# Altium schematic symbol library kmilo17pet-TI_RS232.SchLib: 1272 symbols (part 13 of 37)
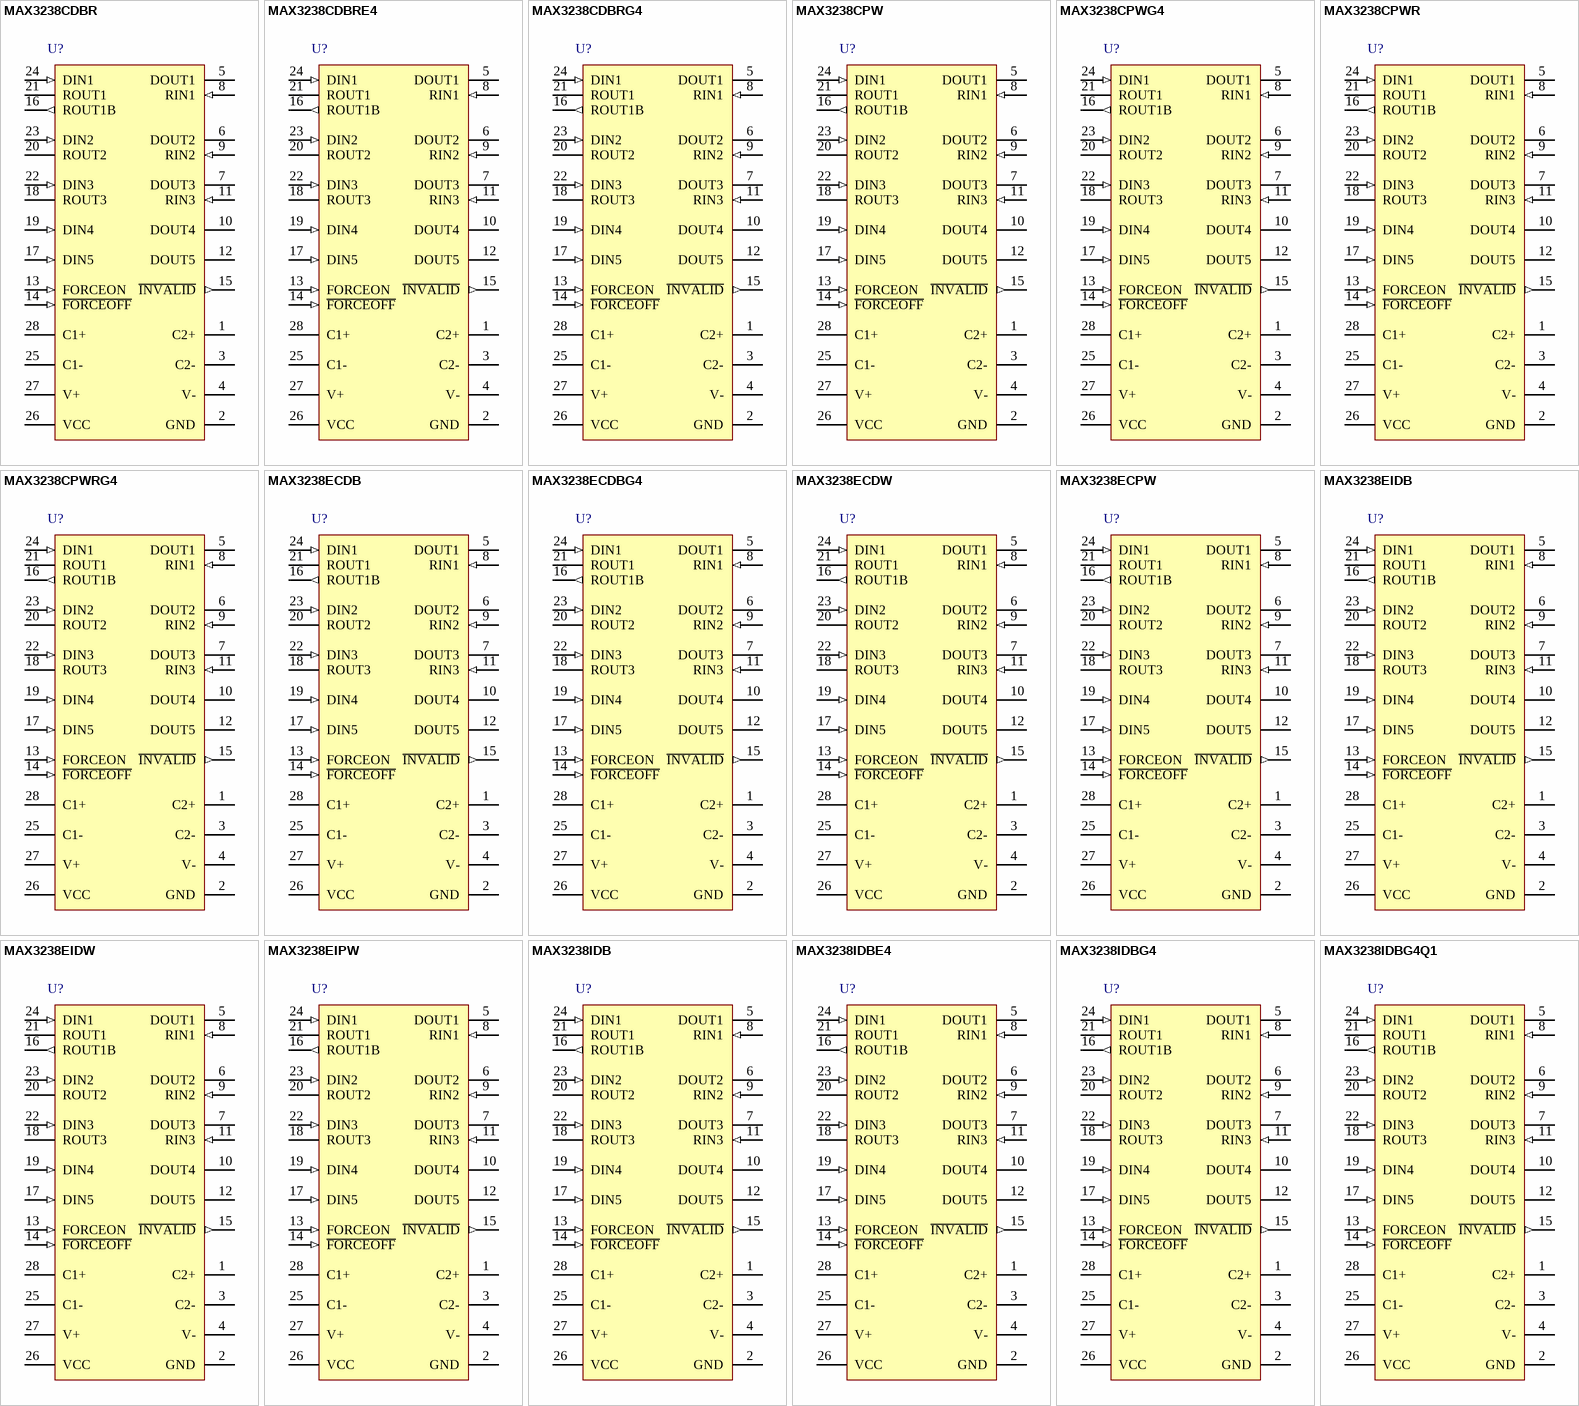
[diagram p66: symbols MAX3238CDBR to MAX3238IDBG4Q1]

## MAX3238CDBRG4
designator U?
3-V to 5.5-V Multichannel RS-232 Line Driver / Receiver with ±15-kV ESD (HBM) Protection, 0 to 70 degC, 28-Pin SSOP (DB), Green (RoHS & no Sb/Br); Drivers Per Package: 5; Receivers Per Package: 3; Supply Voltage(s)(V): 3.3 or 5.0; ESD HBM(kV): +/-15; ICC(Max)(mA): 2; Single Supply: TRUE; DatasheetVersion: SLLS349J; PackageVersion: revE, Dec-2001; PackageReference: DB28; PackageDescription: 28-Pin Plastic Small Outline Package, 10.2 x 5.3 mm Body, 0.65 mm Pitch; SubFamily: RS-232; RS-232: TRUE; ComponentLink1Description: Manufacturer URL; ComponentLink1URL: www.ti.com; ComponentLink2Description: Datasheet; ComponentLink2URL: http://www.ti.com/general/docs/lit/getliterature.tsp?genericPartNumber=MAX3238&fileType=pdf; ComponentLink3Description: Package Specification; ComponentLink3URL: http://www.ti.com/litv/pdf/msso002e
footprint TI-DB28_N (SOP, 28-Leads, Body 10.2x5.3mm, Pitch 0.65mm, IPC Medium Density)
footprint TI-DB28_L (SOP, 28-Leads, Body 10.2x5.3mm, Pitch 0.65mm, IPC High Density)
footprint TI-DB28_M (SOP, 28-Leads, Body 10.2x5.3mm, Pitch 0.65mm, IPC Low Density)
pins: 1 C2+, 2 GND (power), 3 C2-, 4 V- (power), 5 DOUT1 (hiz), 6 DOUT2 (hiz), 7 DOUT3 (hiz), 8 RIN1 (in), 9 RIN2 (in), 10 DOUT4 (hiz), 11 RIN3 (in), 12 DOUT5 (hiz), 13 FORCEON (in), 14 ~{FORCEOFF} (in), 15 ~{INVALID} (out), 16 ROUT1B (out), 17 DIN5 (in), 18 ROUT3 (hiz), 19 DIN4 (in), 20 ROUT2 (hiz), 21 ROUT1 (hiz), 22 DIN3 (in), 23 DIN2 (in), 24 DIN1 (in), 25 C1-, 26 VCC (power), 27 V+ (power), 28 C1+

## MAX3238CPW
designator U?
3-V to 5.5-V Multichannel RS-232 Line Driver / Receiver with ±15-kV ESD (HBM) Protection, 0 to 70 degC, 28-Pin TSSOP (PW), Green (RoHS & no Sb/Br); Drivers Per Package: 5; Receivers Per Package: 3; Supply Voltage(s)(V): 3.3 or 5.0; ESD HBM(kV): +/-15; ICC(Max)(mA): 2; Single Supply: TRUE; DatasheetVersion: SLLS349J; PackageVersion: revG, Feb-2011; PackageReference: PW28; PackageDescription: 28-Pin Plastic Thin Small Outline Package 9.7 x 4.4 mm Body ,0.65 mm Pitch; SubFamily: RS-232; RS-232: TRUE; ComponentLink1Description: Manufacturer URL; ComponentLink1URL: www.ti.com; ComponentLink2Description: Datasheet; ComponentLink2URL: http://www.ti.com/general/docs/lit/getliterature.tsp?genericPartNumber=MAX3238&fileType=pdf; ComponentLink3Description: Package Specification; ComponentLink3URL: http://www.ti.com/litv/pdf/mpds364
footprint TI-PW28_N (TSOP, 28-Leads, Body 9.7x4.4mm, Pitch 0.65mm, IPC Medium Density)
footprint TI-PW28_L (TSOP, 28-Leads, Body 9.7x4.4mm, Pitch 0.65mm, IPC High Density)
footprint TI-PW28_M (TSOP, 28-Leads, Body 9.7x4.4mm, Pitch 0.65mm, IPC Low Density)
pins: 1 C2+, 2 GND (power), 3 C2-, 4 V- (power), 5 DOUT1 (hiz), 6 DOUT2 (hiz), 7 DOUT3 (hiz), 8 RIN1 (in), 9 RIN2 (in), 10 DOUT4 (hiz), 11 RIN3 (in), 12 DOUT5 (hiz), 13 FORCEON (in), 14 ~{FORCEOFF} (in), 15 ~{INVALID} (out), 16 ROUT1B (out), 17 DIN5 (in), 18 ROUT3 (hiz), 19 DIN4 (in), 20 ROUT2 (hiz), 21 ROUT1 (hiz), 22 DIN3 (in), 23 DIN2 (in), 24 DIN1 (in), 25 C1-, 26 VCC (power), 27 V+ (power), 28 C1+

## MAX3238CPWG4
designator U?
3-V to 5.5-V Multichannel RS-232 Line Driver / Receiver with ±15-kV ESD (HBM) Protection, 0 to 70 degC, 28-Pin TSSOP (PW), Green (RoHS & no Sb/Br); Drivers Per Package: 5; Receivers Per Package: 3; Supply Voltage(s)(V): 3.3 or 5.0; ESD HBM(kV): +/-15; ICC(Max)(mA): 2; Single Supply: TRUE; DatasheetVersion: SLLS349J; PackageVersion: revG, Feb-2011; PackageReference: PW28; PackageDescription: 28-Pin Plastic Thin Small Outline Package 9.7 x 4.4 mm Body ,0.65 mm Pitch; SubFamily: RS-232; RS-232: TRUE; ComponentLink1Description: Manufacturer URL; ComponentLink1URL: www.ti.com; ComponentLink2Description: Datasheet; ComponentLink2URL: http://www.ti.com/general/docs/lit/getliterature.tsp?genericPartNumber=MAX3238&fileType=pdf; ComponentLink3Description: Package Specification; ComponentLink3URL: http://www.ti.com/litv/pdf/mpds364
footprint TI-PW28_N (TSOP, 28-Leads, Body 9.7x4.4mm, Pitch 0.65mm, IPC Medium Density)
footprint TI-PW28_L (TSOP, 28-Leads, Body 9.7x4.4mm, Pitch 0.65mm, IPC High Density)
footprint TI-PW28_M (TSOP, 28-Leads, Body 9.7x4.4mm, Pitch 0.65mm, IPC Low Density)
pins: 1 C2+, 2 GND (power), 3 C2-, 4 V- (power), 5 DOUT1 (hiz), 6 DOUT2 (hiz), 7 DOUT3 (hiz), 8 RIN1 (in), 9 RIN2 (in), 10 DOUT4 (hiz), 11 RIN3 (in), 12 DOUT5 (hiz), 13 FORCEON (in), 14 ~{FORCEOFF} (in), 15 ~{INVALID} (out), 16 ROUT1B (out), 17 DIN5 (in), 18 ROUT3 (hiz), 19 DIN4 (in), 20 ROUT2 (hiz), 21 ROUT1 (hiz), 22 DIN3 (in), 23 DIN2 (in), 24 DIN1 (in), 25 C1-, 26 VCC (power), 27 V+ (power), 28 C1+

## MAX3238CPWR
designator U?
3-V to 5.5-V Multichannel RS-232 Line Driver / Receiver with ±15-kV ESD (HBM) Protection, 0 to 70 degC, 28-Pin TSSOP (PW), Green (RoHS & no Sb/Br); Drivers Per Package: 5; Receivers Per Package: 3; Supply Voltage(s)(V): 3.3 or 5.0; ESD HBM(kV): +/-15; ICC(Max)(mA): 2; Single Supply: TRUE; DatasheetVersion: SLLS349J; PackageVersion: revG, Feb-2011; PackageReference: PW28; PackageDescription: 28-Pin Plastic Thin Small Outline Package 9.7 x 4.4 mm Body ,0.65 mm Pitch; SubFamily: RS-232; RS-232: TRUE; ComponentLink1Description: Manufacturer URL; ComponentLink1URL: www.ti.com; ComponentLink2Description: Datasheet; ComponentLink2URL: http://www.ti.com/general/docs/lit/getliterature.tsp?genericPartNumber=MAX3238&fileType=pdf; ComponentLink3Description: Package Specification; ComponentLink3URL: http://www.ti.com/litv/pdf/mpds364
footprint TI-PW28_N (TSOP, 28-Leads, Body 9.7x4.4mm, Pitch 0.65mm, IPC Medium Density)
footprint TI-PW28_L (TSOP, 28-Leads, Body 9.7x4.4mm, Pitch 0.65mm, IPC High Density)
footprint TI-PW28_M (TSOP, 28-Leads, Body 9.7x4.4mm, Pitch 0.65mm, IPC Low Density)
pins: 1 C2+, 2 GND (power), 3 C2-, 4 V- (power), 5 DOUT1 (hiz), 6 DOUT2 (hiz), 7 DOUT3 (hiz), 8 RIN1 (in), 9 RIN2 (in), 10 DOUT4 (hiz), 11 RIN3 (in), 12 DOUT5 (hiz), 13 FORCEON (in), 14 ~{FORCEOFF} (in), 15 ~{INVALID} (out), 16 ROUT1B (out), 17 DIN5 (in), 18 ROUT3 (hiz), 19 DIN4 (in), 20 ROUT2 (hiz), 21 ROUT1 (hiz), 22 DIN3 (in), 23 DIN2 (in), 24 DIN1 (in), 25 C1-, 26 VCC (power), 27 V+ (power), 28 C1+

## MAX3238CPWRG4
designator U?
3-V to 5.5-V Multichannel RS-232 Line Driver / Receiver with ±15-kV ESD (HBM) Protection, 0 to 70 degC, 28-Pin TSSOP (PW), Green (RoHS & no Sb/Br); Drivers Per Package: 5; Receivers Per Package: 3; Supply Voltage(s)(V): 3.3 or 5.0; ESD HBM(kV): +/-15; ICC(Max)(mA): 2; Single Supply: TRUE; DatasheetVersion: SLLS349J; PackageVersion: revG, Feb-2011; PackageReference: PW28; PackageDescription: 28-Pin Plastic Thin Small Outline Package 9.7 x 4.4 mm Body ,0.65 mm Pitch; SubFamily: RS-232; RS-232: TRUE; ComponentLink1Description: Manufacturer URL; ComponentLink1URL: www.ti.com; ComponentLink2Description: Datasheet; ComponentLink2URL: http://www.ti.com/general/docs/lit/getliterature.tsp?genericPartNumber=MAX3238&fileType=pdf; ComponentLink3Description: Package Specification; ComponentLink3URL: http://www.ti.com/litv/pdf/mpds364
footprint TI-PW28_N (TSOP, 28-Leads, Body 9.7x4.4mm, Pitch 0.65mm, IPC Medium Density)
footprint TI-PW28_L (TSOP, 28-Leads, Body 9.7x4.4mm, Pitch 0.65mm, IPC High Density)
footprint TI-PW28_M (TSOP, 28-Leads, Body 9.7x4.4mm, Pitch 0.65mm, IPC Low Density)
pins: 1 C2+, 2 GND (power), 3 C2-, 4 V- (power), 5 DOUT1 (hiz), 6 DOUT2 (hiz), 7 DOUT3 (hiz), 8 RIN1 (in), 9 RIN2 (in), 10 DOUT4 (hiz), 11 RIN3 (in), 12 DOUT5 (hiz), 13 FORCEON (in), 14 ~{FORCEOFF} (in), 15 ~{INVALID} (out), 16 ROUT1B (out), 17 DIN5 (in), 18 ROUT3 (hiz), 19 DIN4 (in), 20 ROUT2 (hiz), 21 ROUT1 (hiz), 22 DIN3 (in), 23 DIN2 (in), 24 DIN1 (in), 25 C1-, 26 VCC (power), 27 V+ (power), 28 C1+

## MAX3238ECDB
designator U?
3-V to 5.5-V Multichannel RS-232 Line Driver / Receiver with ±15-kV ESD (HBM) Protection, 0 to 70 degC , 28-Pin SSOP (DB), Green (RoHS & no Sb/Br); Drivers Per Package: 5; Receivers Per Package: 3; Supply Voltage(s)(V): 3.3 or 5.0; ESD HBM(kV): +/-15; ICC(Max)(mA): 2; Single Supply: TRUE; DatasheetVersion: SLLS710A; PackageVersion: revE, Dec-2001; PackageReference: DB28; PackageDescription: 28-Pin Plastic Small Outline Package, 10.2 x 5.3 mm Body, 0.65 mm Pitch; SubFamily: RS-232; RS-232: TRUE; IEC-61000-4-2 SUPPORT: TRUE; ComponentLink1Description: Manufacturer URL; ComponentLink1URL: www.ti.com; ComponentLink2Description: Datasheet; ComponentLink2URL: http://www.ti.com/general/docs/lit/getliterature.tsp?genericPartNumber=MAX3238E&fileType=pdf; ComponentLink3Description: Package Specification; ComponentLink3URL: http://www.ti.com/litv/pdf/msso002e
footprint TI-DB28_N (SOP, 28-Leads, Body 10.2x5.3mm, Pitch 0.65mm, IPC Medium Density)
footprint TI-DB28_L (SOP, 28-Leads, Body 10.2x5.3mm, Pitch 0.65mm, IPC High Density)
footprint TI-DB28_M (SOP, 28-Leads, Body 10.2x5.3mm, Pitch 0.65mm, IPC Low Density)
pins: 1 C2+, 2 GND (power), 3 C2-, 4 V- (power), 5 DOUT1 (hiz), 6 DOUT2 (hiz), 7 DOUT3 (hiz), 8 RIN1 (in), 9 RIN2 (in), 10 DOUT4 (hiz), 11 RIN3 (in), 12 DOUT5 (hiz), 13 FORCEON (in), 14 ~{FORCEOFF} (in), 15 ~{INVALID} (out), 16 ROUT1B (out), 17 DIN5 (in), 18 ROUT3 (hiz), 19 DIN4 (in), 20 ROUT2 (hiz), 21 ROUT1 (hiz), 22 DIN3 (in), 23 DIN2 (in), 24 DIN1 (in), 25 C1-, 26 VCC (power), 27 V+ (power), 28 C1+

## MAX3238ECDBG4
designator U?
3-V to 5.5-V Multichannel RS-232 Line Driver / Receiver with ±15-kV ESD (HBM) Protection, 0 to 70 degC, 28-Pin SSOP (DB), Green (RoHS & no Sb/Br); Drivers Per Package: 5; Receivers Per Package: 3; Supply Voltage(s)(V): 3.3 or 5.0; ESD HBM(kV): +/-15; ICC(Max)(mA): 2; Single Supply: TRUE; DatasheetVersion: SLLS710A; PackageVersion: revE, Dec-2001; PackageReference: DB28; PackageDescription: 28-Pin Plastic Small Outline Package, 10.2 x 5.3 mm Body, 0.65 mm Pitch; SubFamily: RS-232; RS-232: TRUE; IEC-61000-4-2 SUPPORT: TRUE; ComponentLink1Description: Manufacturer URL; ComponentLink1URL: www.ti.com; ComponentLink2Description: Datasheet; ComponentLink2URL: http://www.ti.com/general/docs/lit/getliterature.tsp?genericPartNumber=MAX3238E&fileType=pdf; ComponentLink3Description: Package Specification; ComponentLink3URL: http://www.ti.com/litv/pdf/msso002e
footprint TI-DB28_N (SOP, 28-Leads, Body 10.2x5.3mm, Pitch 0.65mm, IPC Medium Density)
footprint TI-DB28_L (SOP, 28-Leads, Body 10.2x5.3mm, Pitch 0.65mm, IPC High Density)
footprint TI-DB28_M (SOP, 28-Leads, Body 10.2x5.3mm, Pitch 0.65mm, IPC Low Density)
pins: 1 C2+, 2 GND (power), 3 C2-, 4 V- (power), 5 DOUT1 (hiz), 6 DOUT2 (hiz), 7 DOUT3 (hiz), 8 RIN1 (in), 9 RIN2 (in), 10 DOUT4 (hiz), 11 RIN3 (in), 12 DOUT5 (hiz), 13 FORCEON (in), 14 ~{FORCEOFF} (in), 15 ~{INVALID} (out), 16 ROUT1B (out), 17 DIN5 (in), 18 ROUT3 (hiz), 19 DIN4 (in), 20 ROUT2 (hiz), 21 ROUT1 (hiz), 22 DIN3 (in), 23 DIN2 (in), 24 DIN1 (in), 25 C1-, 26 VCC (power), 27 V+ (power), 28 C1+

## MAX3238ECDW
designator U?
3-V to 5.5-V Multichannel RS-232 Line Driver / Receiver with ±15-kV ESD (HBM) Protection, 0 to 70 degC, 28-Pin SOIC (DW), Green (RoHS & no Sb/Br); Drivers Per Package: 5; Receivers Per Package: 3; Supply Voltage(s)(V): 3.3 or 5.0; ESD HBM(kV): +/-15; ICC(Max)(mA): 2; Single Supply: TRUE; DatasheetVersion: SLLS710A; PackageVersion: revG, Jan-2011; PackageReference: DW28; PackageDescription: 28-Pin Plastic Small Outline Integrated Circuit, 17.9 x 7.5 mm, Pitch 1.27 mm Pitch; SubFamily: RS-232; RS-232: TRUE; IEC-61000-4-2 SUPPORT: TRUE; ComponentLink1Description: Manufacturer URL; ComponentLink1URL: www.ti.com; ComponentLink2Description: Datasheet; ComponentLink2URL: http://www.ti.com/general/docs/lit/getliterature.tsp?genericPartNumber=MAX3238E&fileType=pdf; ComponentLink3Description: Package Specification; ComponentLink3URL: http://www.ti.com/litv/pdf/mpds175a
footprint TI-DW28_N (SOIC, 28-Leads, Body 17.9x7.5mm, Pitch 1.27mm, IPC Medium Density)
footprint TI-DW28_L (SOIC, 28-Leads, Body 17.9x7.5mm, Pitch 1.27mm, IPC High Density)
footprint TI-DW28_M (SOIC, 28-Leads, Body 17.9x7.5mm, Pitch 1.27mm, IPC Low Density)
pins: 1 C2+, 2 GND (power), 3 C2-, 4 V- (power), 5 DOUT1 (hiz), 6 DOUT2 (hiz), 7 DOUT3 (hiz), 8 RIN1 (in), 9 RIN2 (in), 10 DOUT4 (hiz), 11 RIN3 (in), 12 DOUT5 (hiz), 13 FORCEON (in), 14 ~{FORCEOFF} (in), 15 ~{INVALID} (out), 16 ROUT1B (out), 17 DIN5 (in), 18 ROUT3 (hiz), 19 DIN4 (in), 20 ROUT2 (hiz), 21 ROUT1 (hiz), 22 DIN3 (in), 23 DIN2 (in), 24 DIN1 (in), 25 C1-, 26 VCC (power), 27 V+ (power), 28 C1+

## MAX3238ECPW
designator U?
3-V to 5.5-V Multichannel RS-232 Line Driver / Receiver with ±15-kV ESD (HBM) Protection, 0 to 70 degC, 28-Pin TSSOP (PW), Green (RoHS & no Sb/Br); Drivers Per Package: 5; Receivers Per Package: 3; Supply Voltage(s)(V): 3.3 or 5.0; ESD HBM(kV): +/-15; ICC(Max)(mA): 2; Single Supply: TRUE; DatasheetVersion: SLLS710A; PackageVersion: revG, Feb-2011; PackageReference: PW28; PackageDescription: 28-Pin Plastic Thin Small Outline Package 9.7 x 4.4 mm Body ,0.65 mm Pitch; SubFamily: RS-232; RS-232: TRUE; IEC-61000-4-2 SUPPORT: TRUE; ComponentLink1Description: Manufacturer URL; ComponentLink1URL: www.ti.com; ComponentLink2Description: Datasheet; ComponentLink2URL: http://www.ti.com/general/docs/lit/getliterature.tsp?genericPartNumber=MAX3238E&fileType=pdf; ComponentLink3Description: Package Specification; ComponentLink3URL: http://www.ti.com/litv/pdf/mpds364
footprint TI-PW28_N (TSOP, 28-Leads, Body 9.7x4.4mm, Pitch 0.65mm, IPC Medium Density)
footprint TI-PW28_L (TSOP, 28-Leads, Body 9.7x4.4mm, Pitch 0.65mm, IPC High Density)
footprint TI-PW28_M (TSOP, 28-Leads, Body 9.7x4.4mm, Pitch 0.65mm, IPC Low Density)
pins: 1 C2+, 2 GND (power), 3 C2-, 4 V- (power), 5 DOUT1 (hiz), 6 DOUT2 (hiz), 7 DOUT3 (hiz), 8 RIN1 (in), 9 RIN2 (in), 10 DOUT4 (hiz), 11 RIN3 (in), 12 DOUT5 (hiz), 13 FORCEON (in), 14 ~{FORCEOFF} (in), 15 ~{INVALID} (out), 16 ROUT1B (out), 17 DIN5 (in), 18 ROUT3 (hiz), 19 DIN4 (in), 20 ROUT2 (hiz), 21 ROUT1 (hiz), 22 DIN3 (in), 23 DIN2 (in), 24 DIN1 (in), 25 C1-, 26 VCC (power), 27 V+ (power), 28 C1+

## MAX3238EIDB
designator U?
3-V to 5.5-V Multichannel RS-232 Line Driver / Receiver with ±15-kV ESD (HBM) Protection, -40 to 85 degC, 28-Pin SSOP (DB), Green (RoHS & no Sb/Br); Drivers Per Package: 5; Receivers Per Package: 3; Supply Voltage(s)(V): 3.3 or 5.0; ESD HBM(kV): +/-15; ICC(Max)(mA): 2; Single Supply: TRUE; DatasheetVersion: SLLS710A; PackageVersion: revE, Dec-2001; PackageReference: DB28; PackageDescription: 28-Pin Plastic Small Outline Package, 10.2 x 5.3 mm Body, 0.65 mm Pitch; SubFamily: RS-232; RS-232: TRUE; IEC-61000-4-2 SUPPORT: TRUE; ComponentLink1Description: Manufacturer URL; ComponentLink1URL: www.ti.com; ComponentLink2Description: Datasheet; ComponentLink2URL: http://www.ti.com/general/docs/lit/getliterature.tsp?genericPartNumber=MAX3238E&fileType=pdf; ComponentLink3Description: Package Specification; ComponentLink3URL: http://www.ti.com/litv/pdf/msso002e
footprint TI-DB28_N (SOP, 28-Leads, Body 10.2x5.3mm, Pitch 0.65mm, IPC Medium Density)
footprint TI-DB28_L (SOP, 28-Leads, Body 10.2x5.3mm, Pitch 0.65mm, IPC High Density)
footprint TI-DB28_M (SOP, 28-Leads, Body 10.2x5.3mm, Pitch 0.65mm, IPC Low Density)
pins: 1 C2+, 2 GND (power), 3 C2-, 4 V- (power), 5 DOUT1 (hiz), 6 DOUT2 (hiz), 7 DOUT3 (hiz), 8 RIN1 (in), 9 RIN2 (in), 10 DOUT4 (hiz), 11 RIN3 (in), 12 DOUT5 (hiz), 13 FORCEON (in), 14 ~{FORCEOFF} (in), 15 ~{INVALID} (out), 16 ROUT1B (out), 17 DIN5 (in), 18 ROUT3 (hiz), 19 DIN4 (in), 20 ROUT2 (hiz), 21 ROUT1 (hiz), 22 DIN3 (in), 23 DIN2 (in), 24 DIN1 (in), 25 C1-, 26 VCC (power), 27 V+ (power), 28 C1+

## MAX3238EIDW
designator U?
3-V to 5.5-V Multichannel RS-232 Line Driver / Receiver with ±15-kV ESD (HBM) Protection, -40 to 85 degC, 28-Pin SOIC (DW), Green (RoHS & no Sb/Br); Drivers Per Package: 5; Receivers Per Package: 3; Supply Voltage(s)(V): 3.3 or 5.0; ESD HBM(kV): +/-15; ICC(Max)(mA): 2; Single Supply: TRUE; DatasheetVersion: SLLS710A; PackageVersion: revG, Jan-2011; PackageReference: DW28; PackageDescription: 28-Pin Plastic Small Outline Integrated Circuit, 17.9 x 7.5 mm, Pitch 1.27 mm Pitch; SubFamily: RS-232; RS-232: TRUE; IEC-61000-4-2 SUPPORT: TRUE; ComponentLink1Description: Manufacturer URL; ComponentLink1URL: www.ti.com; ComponentLink2Description: Datasheet; ComponentLink2URL: http://www.ti.com/general/docs/lit/getliterature.tsp?genericPartNumber=MAX3238E&fileType=pdf; ComponentLink3Description: Package Specification; ComponentLink3URL: http://www.ti.com/litv/pdf/mpds175a
footprint TI-DW28_N (SOIC, 28-Leads, Body 17.9x7.5mm, Pitch 1.27mm, IPC Medium Density)
footprint TI-DW28_L (SOIC, 28-Leads, Body 17.9x7.5mm, Pitch 1.27mm, IPC High Density)
footprint TI-DW28_M (SOIC, 28-Leads, Body 17.9x7.5mm, Pitch 1.27mm, IPC Low Density)
pins: 1 C2+, 2 GND (power), 3 C2-, 4 V- (power), 5 DOUT1 (hiz), 6 DOUT2 (hiz), 7 DOUT3 (hiz), 8 RIN1 (in), 9 RIN2 (in), 10 DOUT4 (hiz), 11 RIN3 (in), 12 DOUT5 (hiz), 13 FORCEON (in), 14 ~{FORCEOFF} (in), 15 ~{INVALID} (out), 16 ROUT1B (out), 17 DIN5 (in), 18 ROUT3 (hiz), 19 DIN4 (in), 20 ROUT2 (hiz), 21 ROUT1 (hiz), 22 DIN3 (in), 23 DIN2 (in), 24 DIN1 (in), 25 C1-, 26 VCC (power), 27 V+ (power), 28 C1+

## MAX3238EIPW
designator U?
3-V to 5.5-V Multichannel RS-232 Line Driver / Receiver with ±15-kV ESD (HBM) Protection, -40 to 85 degC, 28-Pin TSSOP (PW), Green (RoHS & no Sb/Br); Drivers Per Package: 5; Receivers Per Package: 3; Supply Voltage(s)(V): 3.3 or 5.0; ESD HBM(kV): +/-15; ICC(Max)(mA): 2; Single Supply: TRUE; DatasheetVersion: SLLS710A; PackageVersion: revG, Feb-2011; PackageReference: PW28; PackageDescription: 28-Pin Plastic Thin Small Outline Package 9.7 x 4.4 mm Body ,0.65 mm Pitch; SubFamily: RS-232; RS-232: TRUE; IEC-61000-4-2 SUPPORT: TRUE; ComponentLink1Description: Manufacturer URL; ComponentLink1URL: www.ti.com; ComponentLink2Description: Datasheet; ComponentLink2URL: http://www.ti.com/general/docs/lit/getliterature.tsp?genericPartNumber=MAX3238E&fileType=pdf; ComponentLink3Description: Package Specification; ComponentLink3URL: http://www.ti.com/litv/pdf/mpds364
footprint TI-PW28_N (TSOP, 28-Leads, Body 9.7x4.4mm, Pitch 0.65mm, IPC Medium Density)
footprint TI-PW28_L (TSOP, 28-Leads, Body 9.7x4.4mm, Pitch 0.65mm, IPC High Density)
footprint TI-PW28_M (TSOP, 28-Leads, Body 9.7x4.4mm, Pitch 0.65mm, IPC Low Density)
pins: 1 C2+, 2 GND (power), 3 C2-, 4 V- (power), 5 DOUT1 (hiz), 6 DOUT2 (hiz), 7 DOUT3 (hiz), 8 RIN1 (in), 9 RIN2 (in), 10 DOUT4 (hiz), 11 RIN3 (in), 12 DOUT5 (hiz), 13 FORCEON (in), 14 ~{FORCEOFF} (in), 15 ~{INVALID} (out), 16 ROUT1B (out), 17 DIN5 (in), 18 ROUT3 (hiz), 19 DIN4 (in), 20 ROUT2 (hiz), 21 ROUT1 (hiz), 22 DIN3 (in), 23 DIN2 (in), 24 DIN1 (in), 25 C1-, 26 VCC (power), 27 V+ (power), 28 C1+

## MAX3238IDB
designator U?
3-V to 5.5-V Multichannel RS-232 Line Driver / Receiver with ±15-kV ESD (HBM) Protection, -40 to 85 degC, 28-Pin SSOP (DB), Green (RoHS & no Sb/Br); Drivers Per Package: 5; Receivers Per Package: 3; Supply Voltage(s)(V): 3.3 or 5.0; ESD HBM(kV): +/-15; ICC(Max)(mA): 2; Single Supply: TRUE; DatasheetVersion: SLLS349J; PackageVersion: revE, Dec-2001; PackageReference: DB28; PackageDescription: 28-Pin Plastic Small Outline Package, 10.2 x 5.3 mm Body, 0.65 mm Pitch; SubFamily: RS-232; RS-232: TRUE; ComponentLink1Description: Manufacturer URL; ComponentLink1URL: www.ti.com; ComponentLink2Description: Datasheet; ComponentLink2URL: http://www.ti.com/general/docs/lit/getliterature.tsp?genericPartNumber=MAX3238&fileType=pdf; ComponentLink3Description: Package Specification; ComponentLink3URL: http://www.ti.com/litv/pdf/msso002e
footprint TI-DB28_N (SOP, 28-Leads, Body 10.2x5.3mm, Pitch 0.65mm, IPC Medium Density)
footprint TI-DB28_L (SOP, 28-Leads, Body 10.2x5.3mm, Pitch 0.65mm, IPC High Density)
footprint TI-DB28_M (SOP, 28-Leads, Body 10.2x5.3mm, Pitch 0.65mm, IPC Low Density)
pins: 1 C2+, 2 GND (power), 3 C2-, 4 V- (power), 5 DOUT1 (hiz), 6 DOUT2 (hiz), 7 DOUT3 (hiz), 8 RIN1 (in), 9 RIN2 (in), 10 DOUT4 (hiz), 11 RIN3 (in), 12 DOUT5 (hiz), 13 FORCEON (in), 14 ~{FORCEOFF} (in), 15 ~{INVALID} (out), 16 ROUT1B (out), 17 DIN5 (in), 18 ROUT3 (hiz), 19 DIN4 (in), 20 ROUT2 (hiz), 21 ROUT1 (hiz), 22 DIN3 (in), 23 DIN2 (in), 24 DIN1 (in), 25 C1-, 26 VCC (power), 27 V+ (power), 28 C1+

## MAX3238IDBE4
designator U?
3-V to 5.5-V Multichannel RS-232 Line Driver / Receiver with ±15-kV ESD (HBM) Protection, -40 to 85 degC, 28-Pin SSOP (DB), Green (RoHS & no Sb/Br); Drivers Per Package: 5; Receivers Per Package: 3; Supply Voltage(s)(V): 3.3 or 5.0; ESD HBM(kV): +/-15; ICC(Max)(mA): 2; Single Supply: TRUE; DatasheetVersion: SLLS349J; PackageVersion: revE, Dec-2001; PackageReference: DB28; PackageDescription: 28-Pin Plastic Small Outline Package, 10.2 x 5.3 mm Body, 0.65 mm Pitch; SubFamily: RS-232; RS-232: TRUE; ComponentLink1Description: Manufacturer URL; ComponentLink1URL: www.ti.com; ComponentLink2Description: Datasheet; ComponentLink2URL: http://www.ti.com/general/docs/lit/getliterature.tsp?genericPartNumber=MAX3238&fileType=pdf; ComponentLink3Description: Package Specification; ComponentLink3URL: http://www.ti.com/litv/pdf/msso002e
footprint TI-DB28_N (SOP, 28-Leads, Body 10.2x5.3mm, Pitch 0.65mm, IPC Medium Density)
footprint TI-DB28_L (SOP, 28-Leads, Body 10.2x5.3mm, Pitch 0.65mm, IPC High Density)
footprint TI-DB28_M (SOP, 28-Leads, Body 10.2x5.3mm, Pitch 0.65mm, IPC Low Density)
pins: 1 C2+, 2 GND (power), 3 C2-, 4 V- (power), 5 DOUT1 (hiz), 6 DOUT2 (hiz), 7 DOUT3 (hiz), 8 RIN1 (in), 9 RIN2 (in), 10 DOUT4 (hiz), 11 RIN3 (in), 12 DOUT5 (hiz), 13 FORCEON (in), 14 ~{FORCEOFF} (in), 15 ~{INVALID} (out), 16 ROUT1B (out), 17 DIN5 (in), 18 ROUT3 (hiz), 19 DIN4 (in), 20 ROUT2 (hiz), 21 ROUT1 (hiz), 22 DIN3 (in), 23 DIN2 (in), 24 DIN1 (in), 25 C1-, 26 VCC (power), 27 V+ (power), 28 C1+

## MAX3238IDBG4
designator U?
3-V to 5.5-V Multichannel RS-232 Line Driver / Receiver with ±15-kV ESD (HBM) Protection, -40 to 85 degC, 28-Pin SSOP (DB), Green (RoHS & no Sb/Br); Drivers Per Package: 5; Receivers Per Package: 3; Supply Voltage(s)(V): 3.3 or 5.0; ESD HBM(kV): +/-15; ICC(Max)(mA): 2; Single Supply: TRUE; DatasheetVersion: SLLS349J; PackageVersion: revE, Dec-2001; PackageReference: DB28; PackageDescription: 28-Pin Plastic Small Outline Package, 10.2 x 5.3 mm Body, 0.65 mm Pitch; SubFamily: RS-232; RS-232: TRUE; ComponentLink1Description: Manufacturer URL; ComponentLink1URL: www.ti.com; ComponentLink2Description: Datasheet; ComponentLink2URL: http://www.ti.com/general/docs/lit/getliterature.tsp?genericPartNumber=MAX3238&fileType=pdf; ComponentLink3Description: Package Specification; ComponentLink3URL: http://www.ti.com/litv/pdf/msso002e
footprint TI-DB28_N (SOP, 28-Leads, Body 10.2x5.3mm, Pitch 0.65mm, IPC Medium Density)
footprint TI-DB28_L (SOP, 28-Leads, Body 10.2x5.3mm, Pitch 0.65mm, IPC High Density)
footprint TI-DB28_M (SOP, 28-Leads, Body 10.2x5.3mm, Pitch 0.65mm, IPC Low Density)
pins: 1 C2+, 2 GND (power), 3 C2-, 4 V- (power), 5 DOUT1 (hiz), 6 DOUT2 (hiz), 7 DOUT3 (hiz), 8 RIN1 (in), 9 RIN2 (in), 10 DOUT4 (hiz), 11 RIN3 (in), 12 DOUT5 (hiz), 13 FORCEON (in), 14 ~{FORCEOFF} (in), 15 ~{INVALID} (out), 16 ROUT1B (out), 17 DIN5 (in), 18 ROUT3 (hiz), 19 DIN4 (in), 20 ROUT2 (hiz), 21 ROUT1 (hiz), 22 DIN3 (in), 23 DIN2 (in), 24 DIN1 (in), 25 C1-, 26 VCC (power), 27 V+ (power), 28 C1+

## MAX3238IDBG4Q1
designator U?
3-V to 5.5-V Multichannel RS-232 Line Driver / Receiver with ±15-kV ESD (HBM) Protection, -40 to 85 degC, 28-Pin SSOP (DB), Green (RoHS & no Sb/Br); Drivers Per Package: 5; Receivers Per Package: 3; Supply Voltage(s)(V): 3.3 or 5.0; ESD HBM(kV): +/-15; ICC(Max)(mA): 2; Single Supply: TRUE; DatasheetVersion: SLLS569B; PackageVersion: revE, Dec-2001; PackageReference: DB28; PackageDescription: 28-Pin Plastic Small Outline Package, 10.2 x 5.3 mm Body, 0.65 mm Pitch; SubFamily: RS-232; RS-232: TRUE; ComponentLink1Description: Manufacturer URL; ComponentLink1URL: www.ti.com; ComponentLink2Description: Datasheet; ComponentLink2URL: http://www.ti.com/general/docs/lit/getliterature.tsp?genericPartNumber=MAX3238-Q1&fileType=pdf; ComponentLink3Description: Package Specification; ComponentLink3URL: http://www.ti.com/litv/pdf/msso002e
footprint TI-DB28_N (SOP, 28-Leads, Body 10.2x5.3mm, Pitch 0.65mm, IPC Medium Density)
footprint TI-DB28_L (SOP, 28-Leads, Body 10.2x5.3mm, Pitch 0.65mm, IPC High Density)
footprint TI-DB28_M (SOP, 28-Leads, Body 10.2x5.3mm, Pitch 0.65mm, IPC Low Density)
pins: 1 C2+, 2 GND (power), 3 C2-, 4 V- (power), 5 DOUT1 (hiz), 6 DOUT2 (hiz), 7 DOUT3 (hiz), 8 RIN1 (in), 9 RIN2 (in), 10 DOUT4 (hiz), 11 RIN3 (in), 12 DOUT5 (hiz), 13 FORCEON (in), 14 ~{FORCEOFF} (in), 15 ~{INVALID} (out), 16 ROUT1B (out), 17 DIN5 (in), 18 ROUT3 (hiz), 19 DIN4 (in), 20 ROUT2 (hiz), 21 ROUT1 (hiz), 22 DIN3 (in), 23 DIN2 (in), 24 DIN1 (in), 25 C1-, 26 VCC (power), 27 V+ (power), 28 C1+

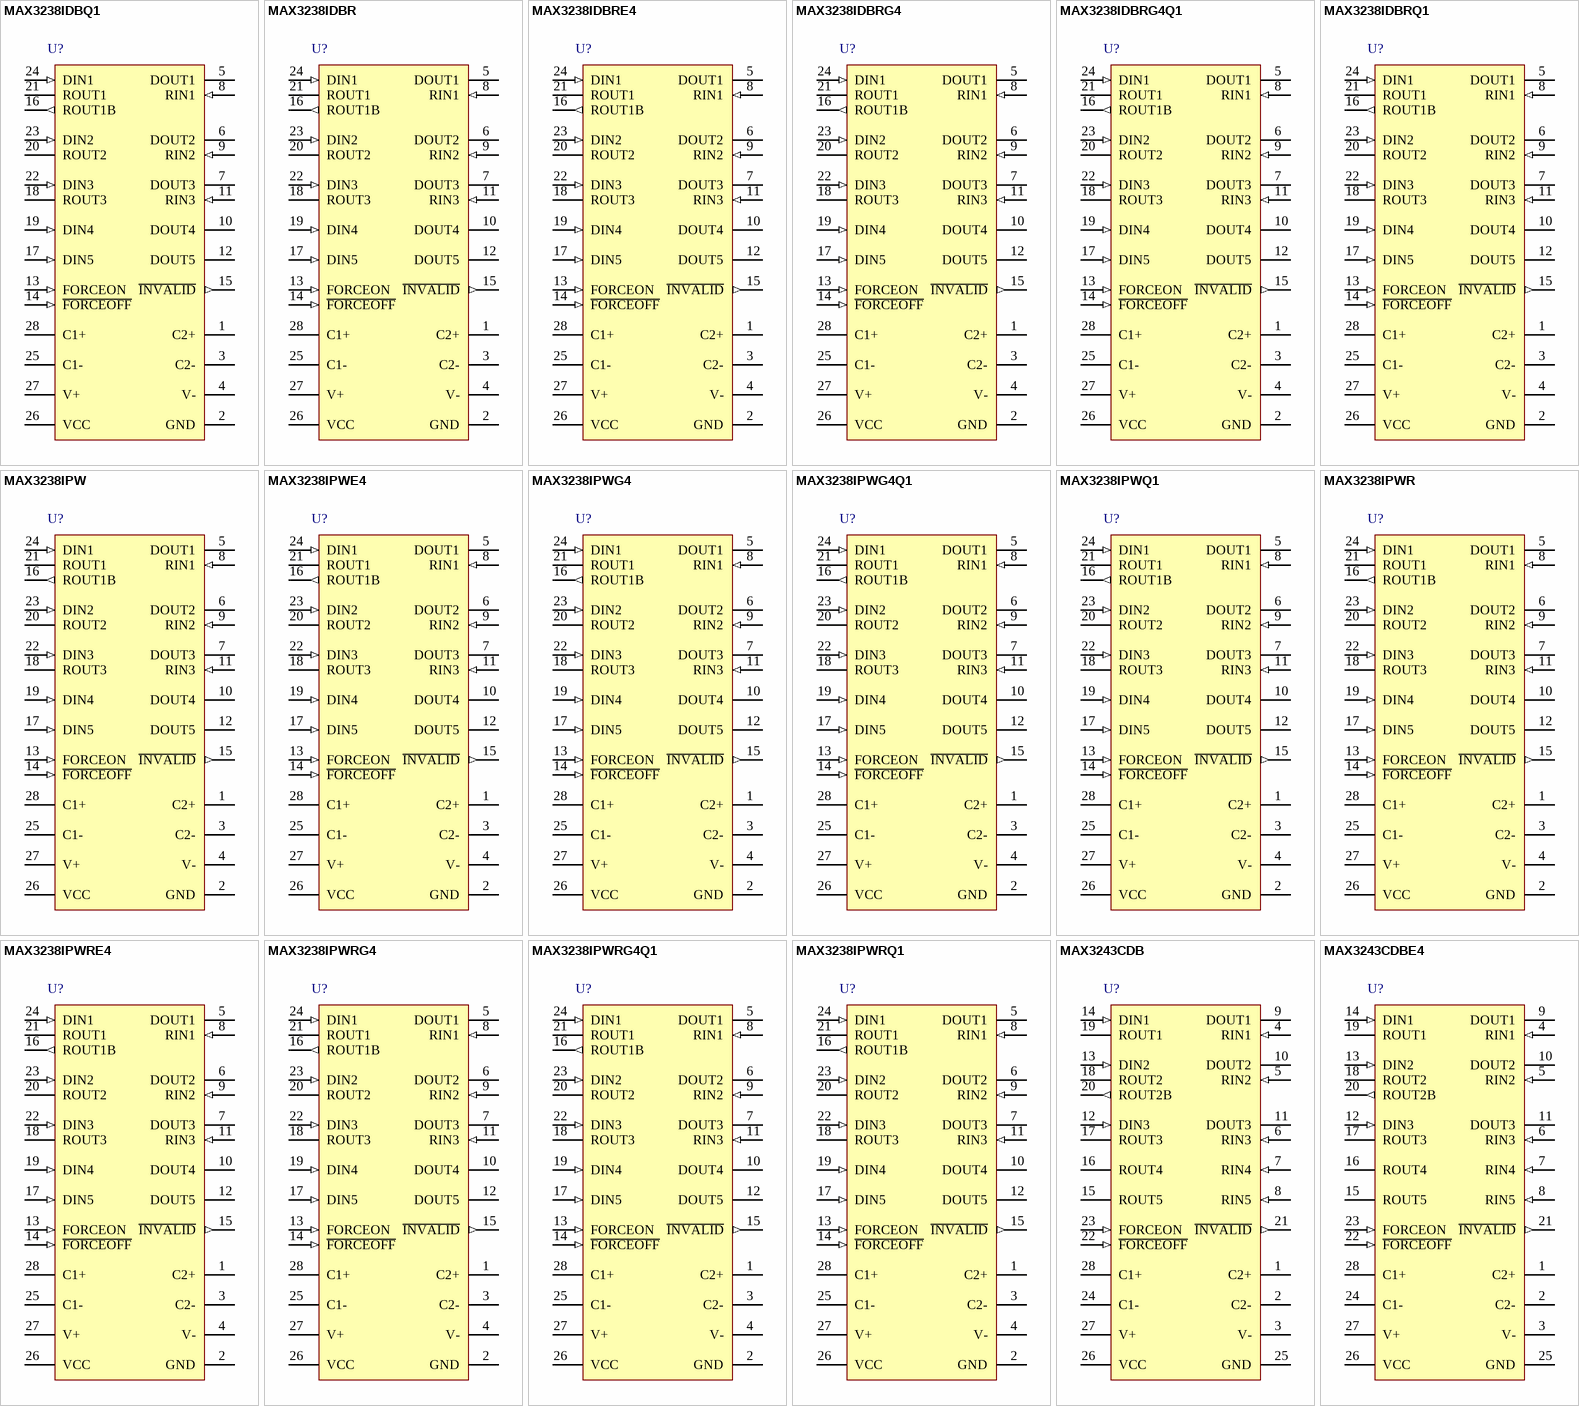
[diagram p18: symbols MAX3238IDBQ1 to MAX3243CDBE4]

## MAX3238IDBQ1
designator U?
3-V to 5.5-V Multichannel RS-232 Line Driver / Receiver with ±15-kV ESD (HBM) Protection, -40 to 85 degC, 28-Pin SSOP (DB), Green (RoHS & no Sb/Br); Drivers Per Package: 5; Receivers Per Package: 3; Supply Voltage(s)(V): 3.3 or 5.0; ESD HBM(kV): +/-15; ICC(Max)(mA): 2; Single Supply: TRUE; DatasheetVersion: SLLS569B; PackageVersion: revE, Dec-2001; PackageReference: DB28; PackageDescription: 28-Pin Plastic Small Outline Package, 10.2 x 5.3 mm Body, 0.65 mm Pitch; SubFamily: RS-232; RS-232: TRUE; ComponentLink1Description: Manufacturer URL; ComponentLink1URL: www.ti.com; ComponentLink2Description: Datasheet; ComponentLink2URL: http://www.ti.com/general/docs/lit/getliterature.tsp?genericPartNumber=MAX3238-Q1&fileType=pdf; ComponentLink3Description: Package Specification; ComponentLink3URL: http://www.ti.com/litv/pdf/msso002e
footprint TI-DB28_N (SOP, 28-Leads, Body 10.2x5.3mm, Pitch 0.65mm, IPC Medium Density)
footprint TI-DB28_L (SOP, 28-Leads, Body 10.2x5.3mm, Pitch 0.65mm, IPC High Density)
footprint TI-DB28_M (SOP, 28-Leads, Body 10.2x5.3mm, Pitch 0.65mm, IPC Low Density)
pins: 1 C2+, 2 GND (power), 3 C2-, 4 V- (power), 5 DOUT1 (hiz), 6 DOUT2 (hiz), 7 DOUT3 (hiz), 8 RIN1 (in), 9 RIN2 (in), 10 DOUT4 (hiz), 11 RIN3 (in), 12 DOUT5 (hiz), 13 FORCEON (in), 14 ~{FORCEOFF} (in), 15 ~{INVALID} (out), 16 ROUT1B (out), 17 DIN5 (in), 18 ROUT3 (hiz), 19 DIN4 (in), 20 ROUT2 (hiz), 21 ROUT1 (hiz), 22 DIN3 (in), 23 DIN2 (in), 24 DIN1 (in), 25 C1-, 26 VCC (power), 27 V+ (power), 28 C1+

## MAX3238IDBR
designator U?
3-V to 5.5-V Multichannel RS-232 Line Driver / Receiver with ±15-kV ESD (HBM) Protection, -40 to 85 degC, 28-Pin SSOP (DB), Green (RoHS & no Sb/Br); Drivers Per Package: 5; Receivers Per Package: 3; Supply Voltage(s)(V): 3.3 or 5.0; ESD HBM(kV): +/-15; ICC(Max)(mA): 2; Single Supply: TRUE; DatasheetVersion: SLLS349J; PackageVersion: revE, Dec-2001; PackageReference: DB28; PackageDescription: 28-Pin Plastic Small Outline Package, 10.2 x 5.3 mm Body, 0.65 mm Pitch; SubFamily: RS-232; RS-232: TRUE; ComponentLink1Description: Manufacturer URL; ComponentLink1URL: www.ti.com; ComponentLink2Description: Datasheet; ComponentLink2URL: http://www.ti.com/general/docs/lit/getliterature.tsp?genericPartNumber=MAX3238&fileType=pdf; ComponentLink3Description: Package Specification; ComponentLink3URL: http://www.ti.com/litv/pdf/msso002e
footprint TI-DB28_N (SOP, 28-Leads, Body 10.2x5.3mm, Pitch 0.65mm, IPC Medium Density)
footprint TI-DB28_L (SOP, 28-Leads, Body 10.2x5.3mm, Pitch 0.65mm, IPC High Density)
footprint TI-DB28_M (SOP, 28-Leads, Body 10.2x5.3mm, Pitch 0.65mm, IPC Low Density)
pins: 1 C2+, 2 GND (power), 3 C2-, 4 V- (power), 5 DOUT1 (hiz), 6 DOUT2 (hiz), 7 DOUT3 (hiz), 8 RIN1 (in), 9 RIN2 (in), 10 DOUT4 (hiz), 11 RIN3 (in), 12 DOUT5 (hiz), 13 FORCEON (in), 14 ~{FORCEOFF} (in), 15 ~{INVALID} (out), 16 ROUT1B (out), 17 DIN5 (in), 18 ROUT3 (hiz), 19 DIN4 (in), 20 ROUT2 (hiz), 21 ROUT1 (hiz), 22 DIN3 (in), 23 DIN2 (in), 24 DIN1 (in), 25 C1-, 26 VCC (power), 27 V+ (power), 28 C1+

## MAX3238IDBRE4
designator U?
3-V to 5.5-V Multichannel RS-232 Line Driver / Receiver with ±15-kV ESD (HBM) Protection, -40 to 85 degC, 28-Pin SSOP (DB), Green (RoHS & no Sb/Br); Drivers Per Package: 5; Receivers Per Package: 3; Supply Voltage(s)(V): 3.3 or 5.0; ESD HBM(kV): +/-15; ICC(Max)(mA): 2; Single Supply: TRUE; DatasheetVersion: SLLS349J; PackageVersion: revE, Dec-2001; PackageReference: DB28; PackageDescription: 28-Pin Plastic Small Outline Package, 10.2 x 5.3 mm Body, 0.65 mm Pitch; SubFamily: RS-232; RS-232: TRUE; ComponentLink1Description: Manufacturer URL; ComponentLink1URL: www.ti.com; ComponentLink2Description: Datasheet; ComponentLink2URL: http://www.ti.com/general/docs/lit/getliterature.tsp?genericPartNumber=MAX3238&fileType=pdf; ComponentLink3Description: Package Specification; ComponentLink3URL: http://www.ti.com/litv/pdf/msso002e
footprint TI-DB28_N (SOP, 28-Leads, Body 10.2x5.3mm, Pitch 0.65mm, IPC Medium Density)
footprint TI-DB28_L (SOP, 28-Leads, Body 10.2x5.3mm, Pitch 0.65mm, IPC High Density)
footprint TI-DB28_M (SOP, 28-Leads, Body 10.2x5.3mm, Pitch 0.65mm, IPC Low Density)
pins: 1 C2+, 2 GND (power), 3 C2-, 4 V- (power), 5 DOUT1 (hiz), 6 DOUT2 (hiz), 7 DOUT3 (hiz), 8 RIN1 (in), 9 RIN2 (in), 10 DOUT4 (hiz), 11 RIN3 (in), 12 DOUT5 (hiz), 13 FORCEON (in), 14 ~{FORCEOFF} (in), 15 ~{INVALID} (out), 16 ROUT1B (out), 17 DIN5 (in), 18 ROUT3 (hiz), 19 DIN4 (in), 20 ROUT2 (hiz), 21 ROUT1 (hiz), 22 DIN3 (in), 23 DIN2 (in), 24 DIN1 (in), 25 C1-, 26 VCC (power), 27 V+ (power), 28 C1+

## MAX3238IDBRG4
designator U?
3-V to 5.5-V Multichannel RS-232 Line Driver / Receiver with ±15-kV ESD (HBM) Protection, -40 to 85 degC, 28-Pin SSOP (DB), Green (RoHS & no Sb/Br); Drivers Per Package: 5; Receivers Per Package: 3; Supply Voltage(s)(V): 3.3 or 5.0; ESD HBM(kV): +/-15; ICC(Max)(mA): 2; Single Supply: TRUE; DatasheetVersion: SLLS349J; PackageVersion: revE, Dec-2001; PackageReference: DB28; PackageDescription: 28-Pin Plastic Small Outline Package, 10.2 x 5.3 mm Body, 0.65 mm Pitch; SubFamily: RS-232; RS-232: TRUE; ComponentLink1Description: Manufacturer URL; ComponentLink1URL: www.ti.com; ComponentLink2Description: Datasheet; ComponentLink2URL: http://www.ti.com/general/docs/lit/getliterature.tsp?genericPartNumber=MAX3238&fileType=pdf; ComponentLink3Description: Package Specification; ComponentLink3URL: http://www.ti.com/litv/pdf/msso002e
footprint TI-DB28_N (SOP, 28-Leads, Body 10.2x5.3mm, Pitch 0.65mm, IPC Medium Density)
footprint TI-DB28_L (SOP, 28-Leads, Body 10.2x5.3mm, Pitch 0.65mm, IPC High Density)
footprint TI-DB28_M (SOP, 28-Leads, Body 10.2x5.3mm, Pitch 0.65mm, IPC Low Density)
pins: 1 C2+, 2 GND (power), 3 C2-, 4 V- (power), 5 DOUT1 (hiz), 6 DOUT2 (hiz), 7 DOUT3 (hiz), 8 RIN1 (in), 9 RIN2 (in), 10 DOUT4 (hiz), 11 RIN3 (in), 12 DOUT5 (hiz), 13 FORCEON (in), 14 ~{FORCEOFF} (in), 15 ~{INVALID} (out), 16 ROUT1B (out), 17 DIN5 (in), 18 ROUT3 (hiz), 19 DIN4 (in), 20 ROUT2 (hiz), 21 ROUT1 (hiz), 22 DIN3 (in), 23 DIN2 (in), 24 DIN1 (in), 25 C1-, 26 VCC (power), 27 V+ (power), 28 C1+

## MAX3238IDBRG4Q1
designator U?
3-V to 5.5-V Multichannel RS-232 Line Driver / Receiver with ±15-kV ESD (HBM) Protection, -40 to 85 degC, 28-Pin SSOP (DB), Green (RoHS & no Sb/Br); Drivers Per Package: 5; Receivers Per Package: 3; Supply Voltage(s)(V): 3.3 or 5.0; ESD HBM(kV): +/-15; ICC(Max)(mA): 2; Single Supply: TRUE; DatasheetVersion: SLLS569B; PackageVersion: revE, Dec-2001; PackageReference: DB28; PackageDescription: 28-Pin Plastic Small Outline Package, 10.2 x 5.3 mm Body, 0.65 mm Pitch; SubFamily: RS-232; RS-232: TRUE; ComponentLink1Description: Manufacturer URL; ComponentLink1URL: www.ti.com; ComponentLink2Description: Datasheet; ComponentLink2URL: http://www.ti.com/general/docs/lit/getliterature.tsp?genericPartNumber=MAX3238-Q1&fileType=pdf; ComponentLink3Description: Package Specification; ComponentLink3URL: http://www.ti.com/litv/pdf/msso002e
footprint TI-DB28_N (SOP, 28-Leads, Body 10.2x5.3mm, Pitch 0.65mm, IPC Medium Density)
footprint TI-DB28_L (SOP, 28-Leads, Body 10.2x5.3mm, Pitch 0.65mm, IPC High Density)
footprint TI-DB28_M (SOP, 28-Leads, Body 10.2x5.3mm, Pitch 0.65mm, IPC Low Density)
pins: 1 C2+, 2 GND (power), 3 C2-, 4 V- (power), 5 DOUT1 (hiz), 6 DOUT2 (hiz), 7 DOUT3 (hiz), 8 RIN1 (in), 9 RIN2 (in), 10 DOUT4 (hiz), 11 RIN3 (in), 12 DOUT5 (hiz), 13 FORCEON (in), 14 ~{FORCEOFF} (in), 15 ~{INVALID} (out), 16 ROUT1B (out), 17 DIN5 (in), 18 ROUT3 (hiz), 19 DIN4 (in), 20 ROUT2 (hiz), 21 ROUT1 (hiz), 22 DIN3 (in), 23 DIN2 (in), 24 DIN1 (in), 25 C1-, 26 VCC (power), 27 V+ (power), 28 C1+

## MAX3238IDBRQ1
designator U?
3-V to 5.5-V Multichannel RS-232 Line Driver / Receiver with ±15-kV ESD (HBM) Protection, -40 to 85 degC, 28-Pin SSOP (DB), Green (RoHS & no Sb/Br); Drivers Per Package: 5; Receivers Per Package: 3; Supply Voltage(s)(V): 3.3 or 5.0; ESD HBM(kV): +/-15; ICC(Max)(mA): 2; Single Supply: TRUE; DatasheetVersion: SLLS569B; PackageVersion: revE, Dec-2001; PackageReference: DB28; PackageDescription: 28-Pin Plastic Small Outline Package, 10.2 x 5.3 mm Body, 0.65 mm Pitch; SubFamily: RS-232; RS-232: TRUE; ComponentLink1Description: Manufacturer URL; ComponentLink1URL: www.ti.com; ComponentLink2Description: Datasheet; ComponentLink2URL: http://www.ti.com/general/docs/lit/getliterature.tsp?genericPartNumber=MAX3238-Q1&fileType=pdf; ComponentLink3Description: Package Specification; ComponentLink3URL: http://www.ti.com/litv/pdf/msso002e
footprint TI-DB28_N (SOP, 28-Leads, Body 10.2x5.3mm, Pitch 0.65mm, IPC Medium Density)
footprint TI-DB28_L (SOP, 28-Leads, Body 10.2x5.3mm, Pitch 0.65mm, IPC High Density)
footprint TI-DB28_M (SOP, 28-Leads, Body 10.2x5.3mm, Pitch 0.65mm, IPC Low Density)
pins: 1 C2+, 2 GND (power), 3 C2-, 4 V- (power), 5 DOUT1 (hiz), 6 DOUT2 (hiz), 7 DOUT3 (hiz), 8 RIN1 (in), 9 RIN2 (in), 10 DOUT4 (hiz), 11 RIN3 (in), 12 DOUT5 (hiz), 13 FORCEON (in), 14 ~{FORCEOFF} (in), 15 ~{INVALID} (out), 16 ROUT1B (out), 17 DIN5 (in), 18 ROUT3 (hiz), 19 DIN4 (in), 20 ROUT2 (hiz), 21 ROUT1 (hiz), 22 DIN3 (in), 23 DIN2 (in), 24 DIN1 (in), 25 C1-, 26 VCC (power), 27 V+ (power), 28 C1+

## MAX3238IPW
designator U?
3-V to 5.5-V Multichannel RS-232 Line Driver / Receiver with ±15-kV ESD (HBM) Protection, -40 to 85 degC, 28-Pin TSSOP (PW), Green (RoHS & no Sb/Br); Drivers Per Package: 5; Receivers Per Package: 3; Supply Voltage(s)(V): 3.3 or 5.0; ESD HBM(kV): +/-15; ICC(Max)(mA): 2; Single Supply: TRUE; DatasheetVersion: SLLS349J; PackageVersion: revG, Feb-2011; PackageReference: PW28; PackageDescription: 28-Pin Plastic Thin Small Outline Package 9.7 x 4.4 mm Body ,0.65 mm Pitch; SubFamily: RS-232; RS-232: TRUE; ComponentLink1Description: Manufacturer URL; ComponentLink1URL: www.ti.com; ComponentLink2Description: Datasheet; ComponentLink2URL: http://www.ti.com/general/docs/lit/getliterature.tsp?genericPartNumber=MAX3238&fileType=pdf; ComponentLink3Description: Package Specification; ComponentLink3URL: http://www.ti.com/litv/pdf/mpds364
footprint TI-PW28_N (TSOP, 28-Leads, Body 9.7x4.4mm, Pitch 0.65mm, IPC Medium Density)
footprint TI-PW28_L (TSOP, 28-Leads, Body 9.7x4.4mm, Pitch 0.65mm, IPC High Density)
footprint TI-PW28_M (TSOP, 28-Leads, Body 9.7x4.4mm, Pitch 0.65mm, IPC Low Density)
pins: 1 C2+, 2 GND (power), 3 C2-, 4 V- (power), 5 DOUT1 (hiz), 6 DOUT2 (hiz), 7 DOUT3 (hiz), 8 RIN1 (in), 9 RIN2 (in), 10 DOUT4 (hiz), 11 RIN3 (in), 12 DOUT5 (hiz), 13 FORCEON (in), 14 ~{FORCEOFF} (in), 15 ~{INVALID} (out), 16 ROUT1B (out), 17 DIN5 (in), 18 ROUT3 (hiz), 19 DIN4 (in), 20 ROUT2 (hiz), 21 ROUT1 (hiz), 22 DIN3 (in), 23 DIN2 (in), 24 DIN1 (in), 25 C1-, 26 VCC (power), 27 V+ (power), 28 C1+

## MAX3238IPWE4
designator U?
3-V to 5.5-V Multichannel RS-232 Line Driver / Receiver with ±15-kV ESD (HBM) Protection, -40 to 85 degC, 28-Pin TSSOP (PW), Green (RoHS & no Sb/Br); Drivers Per Package: 5; Receivers Per Package: 3; Supply Voltage(s)(V): 3.3 or 5.0; ESD HBM(kV): +/-15; ICC(Max)(mA): 2; Single Supply: TRUE; DatasheetVersion: SLLS349J; PackageVersion: revG, Feb-2011; PackageReference: PW28; PackageDescription: 28-Pin Plastic Thin Small Outline Package 9.7 x 4.4 mm Body ,0.65 mm Pitch; SubFamily: RS-232; RS-232: TRUE; ComponentLink1Description: Manufacturer URL; ComponentLink1URL: www.ti.com; ComponentLink2Description: Datasheet; ComponentLink2URL: http://www.ti.com/general/docs/lit/getliterature.tsp?genericPartNumber=MAX3238&fileType=pdf; ComponentLink3Description: Package Specification; ComponentLink3URL: http://www.ti.com/litv/pdf/mpds364
footprint TI-PW28_N (TSOP, 28-Leads, Body 9.7x4.4mm, Pitch 0.65mm, IPC Medium Density)
footprint TI-PW28_L (TSOP, 28-Leads, Body 9.7x4.4mm, Pitch 0.65mm, IPC High Density)
footprint TI-PW28_M (TSOP, 28-Leads, Body 9.7x4.4mm, Pitch 0.65mm, IPC Low Density)
pins: 1 C2+, 2 GND (power), 3 C2-, 4 V- (power), 5 DOUT1 (hiz), 6 DOUT2 (hiz), 7 DOUT3 (hiz), 8 RIN1 (in), 9 RIN2 (in), 10 DOUT4 (hiz), 11 RIN3 (in), 12 DOUT5 (hiz), 13 FORCEON (in), 14 ~{FORCEOFF} (in), 15 ~{INVALID} (out), 16 ROUT1B (out), 17 DIN5 (in), 18 ROUT3 (hiz), 19 DIN4 (in), 20 ROUT2 (hiz), 21 ROUT1 (hiz), 22 DIN3 (in), 23 DIN2 (in), 24 DIN1 (in), 25 C1-, 26 VCC (power), 27 V+ (power), 28 C1+

## MAX3238IPWG4
designator U?
3-V to 5.5-V Multichannel RS-232 Line Driver / Receiver with ±15-kV ESD (HBM) Protection, -40 to 85 degC, 28-Pin TSSOP (PW), Green (RoHS & no Sb/Br); Drivers Per Package: 5; Receivers Per Package: 3; Supply Voltage(s)(V): 3.3 or 5.0; ESD HBM(kV): +/-15; ICC(Max)(mA): 2; Single Supply: TRUE; DatasheetVersion: SLLS349J; PackageVersion: revG, Feb-2011; PackageReference: PW28; PackageDescription: 28-Pin Plastic Thin Small Outline Package 9.7 x 4.4 mm Body ,0.65 mm Pitch; SubFamily: RS-232; RS-232: TRUE; ComponentLink1Description: Manufacturer URL; ComponentLink1URL: www.ti.com; ComponentLink2Description: Datasheet; ComponentLink2URL: http://www.ti.com/general/docs/lit/getliterature.tsp?genericPartNumber=MAX3238&fileType=pdf; ComponentLink3Description: Package Specification; ComponentLink3URL: http://www.ti.com/litv/pdf/mpds364
footprint TI-PW28_N (TSOP, 28-Leads, Body 9.7x4.4mm, Pitch 0.65mm, IPC Medium Density)
footprint TI-PW28_L (TSOP, 28-Leads, Body 9.7x4.4mm, Pitch 0.65mm, IPC High Density)
footprint TI-PW28_M (TSOP, 28-Leads, Body 9.7x4.4mm, Pitch 0.65mm, IPC Low Density)
pins: 1 C2+, 2 GND (power), 3 C2-, 4 V- (power), 5 DOUT1 (hiz), 6 DOUT2 (hiz), 7 DOUT3 (hiz), 8 RIN1 (in), 9 RIN2 (in), 10 DOUT4 (hiz), 11 RIN3 (in), 12 DOUT5 (hiz), 13 FORCEON (in), 14 ~{FORCEOFF} (in), 15 ~{INVALID} (out), 16 ROUT1B (out), 17 DIN5 (in), 18 ROUT3 (hiz), 19 DIN4 (in), 20 ROUT2 (hiz), 21 ROUT1 (hiz), 22 DIN3 (in), 23 DIN2 (in), 24 DIN1 (in), 25 C1-, 26 VCC (power), 27 V+ (power), 28 C1+

## MAX3238IPWG4Q1
designator U?
3-V to 5.5-V Multichannel RS-232 Line Driver / Receiver with ±15-kV ESD (HBM) Protection, -40 to 85 degC, 28-Pin TSSOP (PW), Green (RoHS & no Sb/Br); Drivers Per Package: 5; Receivers Per Package: 3; Supply Voltage(s)(V): 3.3 or 5.0; ESD HBM(kV): +/-15; ICC(Max)(mA): 2; Single Supply: TRUE; DatasheetVersion: SLLS569B; PackageVersion: revG, Feb-2011; PackageReference: PW28; PackageDescription: 28-Pin Plastic Thin Small Outline Package 9.7 x 4.4 mm Body ,0.65 mm Pitch; SubFamily: RS-232; RS-232: TRUE; ComponentLink1Description: Manufacturer URL; ComponentLink1URL: www.ti.com; ComponentLink2Description: Datasheet; ComponentLink2URL: http://www.ti.com/general/docs/lit/getliterature.tsp?genericPartNumber=MAX3238-Q1&fileType=pdf; ComponentLink3Description: Package Specification; ComponentLink3URL: http://www.ti.com/litv/pdf/mpds364
footprint TI-PW28_N (TSOP, 28-Leads, Body 9.7x4.4mm, Pitch 0.65mm, IPC Medium Density)
footprint TI-PW28_L (TSOP, 28-Leads, Body 9.7x4.4mm, Pitch 0.65mm, IPC High Density)
footprint TI-PW28_M (TSOP, 28-Leads, Body 9.7x4.4mm, Pitch 0.65mm, IPC Low Density)
pins: 1 C2+, 2 GND (power), 3 C2-, 4 V- (power), 5 DOUT1 (hiz), 6 DOUT2 (hiz), 7 DOUT3 (hiz), 8 RIN1 (in), 9 RIN2 (in), 10 DOUT4 (hiz), 11 RIN3 (in), 12 DOUT5 (hiz), 13 FORCEON (in), 14 ~{FORCEOFF} (in), 15 ~{INVALID} (out), 16 ROUT1B (out), 17 DIN5 (in), 18 ROUT3 (hiz), 19 DIN4 (in), 20 ROUT2 (hiz), 21 ROUT1 (hiz), 22 DIN3 (in), 23 DIN2 (in), 24 DIN1 (in), 25 C1-, 26 VCC (power), 27 V+ (power), 28 C1+

## MAX3238IPWQ1
designator U?
3-V to 5.5-V Multichannel RS-232 Line Driver / Receiver with ±15-kV ESD (HBM) Protection, -40 to 85 degC, 28-Pin TSSOP (PW); Drivers Per Package: 5; Receivers Per Package: 3; Supply Voltage(s)(V): 3.3 or 5.0; ESD HBM(kV): +/-15; ICC(Max)(mA): 2; Single Supply: TRUE; DatasheetVersion: SLLS569B; PackageVersion: revG, Feb-2011; PackageReference: PW28; PackageDescription: 28-Pin Plastic Thin Small Outline Package 9.7 x 4.4 mm Body ,0.65 mm Pitch; SubFamily: RS-232; RS-232: TRUE; ComponentLink1Description: Manufacturer URL; ComponentLink1URL: www.ti.com; ComponentLink2Description: Datasheet; ComponentLink2URL: http://www.ti.com/general/docs/lit/getliterature.tsp?genericPartNumber=MAX3238-Q1&fileType=pdf; ComponentLink3Description: Package Specification; ComponentLink3URL: http://www.ti.com/litv/pdf/mpds364
footprint TI-PW28_N (TSOP, 28-Leads, Body 9.7x4.4mm, Pitch 0.65mm, IPC Medium Density)
footprint TI-PW28_L (TSOP, 28-Leads, Body 9.7x4.4mm, Pitch 0.65mm, IPC High Density)
footprint TI-PW28_M (TSOP, 28-Leads, Body 9.7x4.4mm, Pitch 0.65mm, IPC Low Density)
pins: 1 C2+, 2 GND (power), 3 C2-, 4 V- (power), 5 DOUT1 (hiz), 6 DOUT2 (hiz), 7 DOUT3 (hiz), 8 RIN1 (in), 9 RIN2 (in), 10 DOUT4 (hiz), 11 RIN3 (in), 12 DOUT5 (hiz), 13 FORCEON (in), 14 ~{FORCEOFF} (in), 15 ~{INVALID} (out), 16 ROUT1B (out), 17 DIN5 (in), 18 ROUT3 (hiz), 19 DIN4 (in), 20 ROUT2 (hiz), 21 ROUT1 (hiz), 22 DIN3 (in), 23 DIN2 (in), 24 DIN1 (in), 25 C1-, 26 VCC (power), 27 V+ (power), 28 C1+

## MAX3238IPWR
designator U?
3-V to 5.5-V Multichannel RS-232 Line Driver / Receiver with ±15-kV ESD (HBM) Protection, -40 to 85 degC, 28-Pin TSSOP (PW), Green (RoHS & no Sb/Br); Drivers Per Package: 5; Receivers Per Package: 3; Supply Voltage(s)(V): 3.3 or 5.0; ESD HBM(kV): +/-15; ICC(Max)(mA): 2; Single Supply: TRUE; DatasheetVersion: SLLS349J; PackageVersion: revG, Feb-2011; PackageReference: PW28; PackageDescription: 28-Pin Plastic Thin Small Outline Package 9.7 x 4.4 mm Body ,0.65 mm Pitch; SubFamily: RS-232; RS-232: TRUE; ComponentLink1Description: Manufacturer URL; ComponentLink1URL: www.ti.com; ComponentLink2Description: Datasheet; ComponentLink2URL: http://www.ti.com/general/docs/lit/getliterature.tsp?genericPartNumber=MAX3238&fileType=pdf; ComponentLink3Description: Package Specification; ComponentLink3URL: http://www.ti.com/litv/pdf/mpds364
footprint TI-PW28_N (TSOP, 28-Leads, Body 9.7x4.4mm, Pitch 0.65mm, IPC Medium Density)
footprint TI-PW28_L (TSOP, 28-Leads, Body 9.7x4.4mm, Pitch 0.65mm, IPC High Density)
footprint TI-PW28_M (TSOP, 28-Leads, Body 9.7x4.4mm, Pitch 0.65mm, IPC Low Density)
pins: 1 C2+, 2 GND (power), 3 C2-, 4 V- (power), 5 DOUT1 (hiz), 6 DOUT2 (hiz), 7 DOUT3 (hiz), 8 RIN1 (in), 9 RIN2 (in), 10 DOUT4 (hiz), 11 RIN3 (in), 12 DOUT5 (hiz), 13 FORCEON (in), 14 ~{FORCEOFF} (in), 15 ~{INVALID} (out), 16 ROUT1B (out), 17 DIN5 (in), 18 ROUT3 (hiz), 19 DIN4 (in), 20 ROUT2 (hiz), 21 ROUT1 (hiz), 22 DIN3 (in), 23 DIN2 (in), 24 DIN1 (in), 25 C1-, 26 VCC (power), 27 V+ (power), 28 C1+

## MAX3238IPWRE4
designator U?
3-V to 5.5-V Multichannel RS-232 Line Driver / Receiver with ±15-kV ESD (HBM) Protection, -40 to 85 degC, 28-Pin TSSOP (PW), Green (RoHS & no Sb/Br); Drivers Per Package: 5; Receivers Per Package: 3; Supply Voltage(s)(V): 3.3 or 5.0; ESD HBM(kV): +/-15; ICC(Max)(mA): 2; Single Supply: TRUE; DatasheetVersion: SLLS349J; PackageVersion: revG, Feb-2011; PackageReference: PW28; PackageDescription: 28-Pin Plastic Thin Small Outline Package 9.7 x 4.4 mm Body ,0.65 mm Pitch; SubFamily: RS-232; RS-232: TRUE; ComponentLink1Description: Manufacturer URL; ComponentLink1URL: www.ti.com; ComponentLink2Description: Datasheet; ComponentLink2URL: http://www.ti.com/general/docs/lit/getliterature.tsp?genericPartNumber=MAX3238&fileType=pdf; ComponentLink3Description: Package Specification; ComponentLink3URL: http://www.ti.com/litv/pdf/mpds364
footprint TI-PW28_N (TSOP, 28-Leads, Body 9.7x4.4mm, Pitch 0.65mm, IPC Medium Density)
footprint TI-PW28_L (TSOP, 28-Leads, Body 9.7x4.4mm, Pitch 0.65mm, IPC High Density)
footprint TI-PW28_M (TSOP, 28-Leads, Body 9.7x4.4mm, Pitch 0.65mm, IPC Low Density)
pins: 1 C2+, 2 GND (power), 3 C2-, 4 V- (power), 5 DOUT1 (hiz), 6 DOUT2 (hiz), 7 DOUT3 (hiz), 8 RIN1 (in), 9 RIN2 (in), 10 DOUT4 (hiz), 11 RIN3 (in), 12 DOUT5 (hiz), 13 FORCEON (in), 14 ~{FORCEOFF} (in), 15 ~{INVALID} (out), 16 ROUT1B (out), 17 DIN5 (in), 18 ROUT3 (hiz), 19 DIN4 (in), 20 ROUT2 (hiz), 21 ROUT1 (hiz), 22 DIN3 (in), 23 DIN2 (in), 24 DIN1 (in), 25 C1-, 26 VCC (power), 27 V+ (power), 28 C1+

## MAX3238IPWRG4
designator U?
3-V to 5.5-V Multichannel RS-232 Line Driver / Receiver with ±15-kV ESD (HBM) Protection, -40 to 85 degC, 28-Pin TSSOP (PW), Green (RoHS & no Sb/Br); Drivers Per Package: 5; Receivers Per Package: 3; Supply Voltage(s)(V): 3.3 or 5.0; ESD HBM(kV): +/-15; ICC(Max)(mA): 2; Single Supply: TRUE; DatasheetVersion: SLLS349J; PackageVersion: revG, Feb-2011; PackageReference: PW28; PackageDescription: 28-Pin Plastic Thin Small Outline Package 9.7 x 4.4 mm Body ,0.65 mm Pitch; SubFamily: RS-232; RS-232: TRUE; ComponentLink1Description: Manufacturer URL; ComponentLink1URL: www.ti.com; ComponentLink2Description: Datasheet; ComponentLink2URL: http://www.ti.com/general/docs/lit/getliterature.tsp?genericPartNumber=MAX3238&fileType=pdf; ComponentLink3Description: Package Specification; ComponentLink3URL: http://www.ti.com/litv/pdf/mpds364
footprint TI-PW28_N (TSOP, 28-Leads, Body 9.7x4.4mm, Pitch 0.65mm, IPC Medium Density)
footprint TI-PW28_L (TSOP, 28-Leads, Body 9.7x4.4mm, Pitch 0.65mm, IPC High Density)
footprint TI-PW28_M (TSOP, 28-Leads, Body 9.7x4.4mm, Pitch 0.65mm, IPC Low Density)
pins: 1 C2+, 2 GND (power), 3 C2-, 4 V- (power), 5 DOUT1 (hiz), 6 DOUT2 (hiz), 7 DOUT3 (hiz), 8 RIN1 (in), 9 RIN2 (in), 10 DOUT4 (hiz), 11 RIN3 (in), 12 DOUT5 (hiz), 13 FORCEON (in), 14 ~{FORCEOFF} (in), 15 ~{INVALID} (out), 16 ROUT1B (out), 17 DIN5 (in), 18 ROUT3 (hiz), 19 DIN4 (in), 20 ROUT2 (hiz), 21 ROUT1 (hiz), 22 DIN3 (in), 23 DIN2 (in), 24 DIN1 (in), 25 C1-, 26 VCC (power), 27 V+ (power), 28 C1+

## MAX3238IPWRG4Q1
designator U?
3-V to 5.5-V Multichannel RS-232 Line Driver / Receiver with ±15-kV ESD (HBM) Protection, -40 to 85 degC, 28-Pin TSSOP (PW), Green (RoHS & no Sb/Br); Drivers Per Package: 5; Receivers Per Package: 3; Supply Voltage(s)(V): 3.3 or 5.0; ESD HBM(kV): +/-15; ICC(Max)(mA): 2; Single Supply: TRUE; DatasheetVersion: SLLS569B; PackageVersion: revG, Feb-2011; PackageReference: PW28; PackageDescription: 28-Pin Plastic Thin Small Outline Package 9.7 x 4.4 mm Body ,0.65 mm Pitch; SubFamily: RS-232; RS-232: TRUE; ComponentLink1Description: Manufacturer URL; ComponentLink1URL: www.ti.com; ComponentLink2Description: Datasheet; ComponentLink2URL: http://www.ti.com/general/docs/lit/getliterature.tsp?genericPartNumber=MAX3238-Q1&fileType=pdf; ComponentLink3Description: Package Specification; ComponentLink3URL: http://www.ti.com/litv/pdf/mpds364
footprint TI-PW28_N (TSOP, 28-Leads, Body 9.7x4.4mm, Pitch 0.65mm, IPC Medium Density)
footprint TI-PW28_L (TSOP, 28-Leads, Body 9.7x4.4mm, Pitch 0.65mm, IPC High Density)
footprint TI-PW28_M (TSOP, 28-Leads, Body 9.7x4.4mm, Pitch 0.65mm, IPC Low Density)
pins: 1 C2+, 2 GND (power), 3 C2-, 4 V- (power), 5 DOUT1 (hiz), 6 DOUT2 (hiz), 7 DOUT3 (hiz), 8 RIN1 (in), 9 RIN2 (in), 10 DOUT4 (hiz), 11 RIN3 (in), 12 DOUT5 (hiz), 13 FORCEON (in), 14 ~{FORCEOFF} (in), 15 ~{INVALID} (out), 16 ROUT1B (out), 17 DIN5 (in), 18 ROUT3 (hiz), 19 DIN4 (in), 20 ROUT2 (hiz), 21 ROUT1 (hiz), 22 DIN3 (in), 23 DIN2 (in), 24 DIN1 (in), 25 C1-, 26 VCC (power), 27 V+ (power), 28 C1+

## MAX3238IPWRQ1
designator U?
3-V to 5.5-V Multichannel RS-232 Line Driver / Receiver with ±15-kV ESD (HBM) Protection, -40 to 85 degC, 28-Pin TSSOP (PW); Drivers Per Package: 5; Receivers Per Package: 3; Supply Voltage(s)(V): 3.3 or 5.0; ESD HBM(kV): +/-15; ICC(Max)(mA): 2; Single Supply: TRUE; DatasheetVersion: SLLS569B; PackageVersion: revG, Feb-2011; PackageReference: PW28; PackageDescription: 28-Pin Plastic Thin Small Outline Package 9.7 x 4.4 mm Body ,0.65 mm Pitch; SubFamily: RS-232; RS-232: TRUE; ComponentLink1Description: Manufacturer URL; ComponentLink1URL: www.ti.com; ComponentLink2Description: Datasheet; ComponentLink2URL: http://www.ti.com/general/docs/lit/getliterature.tsp?genericPartNumber=MAX3238-Q1&fileType=pdf; ComponentLink3Description: Package Specification; ComponentLink3URL: http://www.ti.com/litv/pdf/mpds364
footprint TI-PW28_N (TSOP, 28-Leads, Body 9.7x4.4mm, Pitch 0.65mm, IPC Medium Density)
footprint TI-PW28_L (TSOP, 28-Leads, Body 9.7x4.4mm, Pitch 0.65mm, IPC High Density)
footprint TI-PW28_M (TSOP, 28-Leads, Body 9.7x4.4mm, Pitch 0.65mm, IPC Low Density)
pins: 1 C2+, 2 GND (power), 3 C2-, 4 V- (power), 5 DOUT1 (hiz), 6 DOUT2 (hiz), 7 DOUT3 (hiz), 8 RIN1 (in), 9 RIN2 (in), 10 DOUT4 (hiz), 11 RIN3 (in), 12 DOUT5 (hiz), 13 FORCEON (in), 14 ~{FORCEOFF} (in), 15 ~{INVALID} (out), 16 ROUT1B (out), 17 DIN5 (in), 18 ROUT3 (hiz), 19 DIN4 (in), 20 ROUT2 (hiz), 21 ROUT1 (hiz), 22 DIN3 (in), 23 DIN2 (in), 24 DIN1 (in), 25 C1-, 26 VCC (power), 27 V+ (power), 28 C1+